# EAGLE library part TLS850B0TBV_50 (library TLS850B0TB V50)
TLS850B0TBV 50 Low Dropout Linear Voltage Regulator, Fixed output voltage 5 V, Output voltage accuracy ≤ ±2% TO170P1500X450-6N
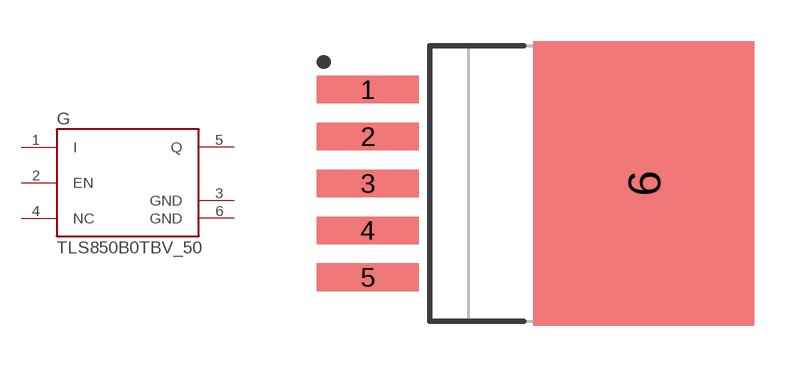
[diagram p0: symbol with the pads of TO170P1500X450-6N; footprint TO170P1500X450-6N]

Designator prefix G

## TLS850B0TBV_50  [TO170P1500X450-6N]
1  I  pwr
2  EN  in
3  GND  pwr
4  NC  pas
5  Q  pwr
6  GND  pwr

## Footprint TO170P1500X450-6N (pad centres in mm)
Original name TO170P1500X450-6N Max Component Height - 4.5mm
smd 3.7 x 1: 1 -5,3.4; 2 -5,1.7; 3 -5,0; 4 -5,-1.7; 5 -5,-3.4
smd 8 x 10.3: 6 5,0